# Altium footprint library Common-Parts-Library.PcbLib: 11 footprints
Each footprint in its own frame and in the unit in brackets; x right, y up, seen from the top. Pads: shape width x height; smd on the part's side, far side on the other; paste and mask are expansions set on the pad; w line width, h text height; cw(c..) or ccw(c..) is an arc to the next point about the centre after c.
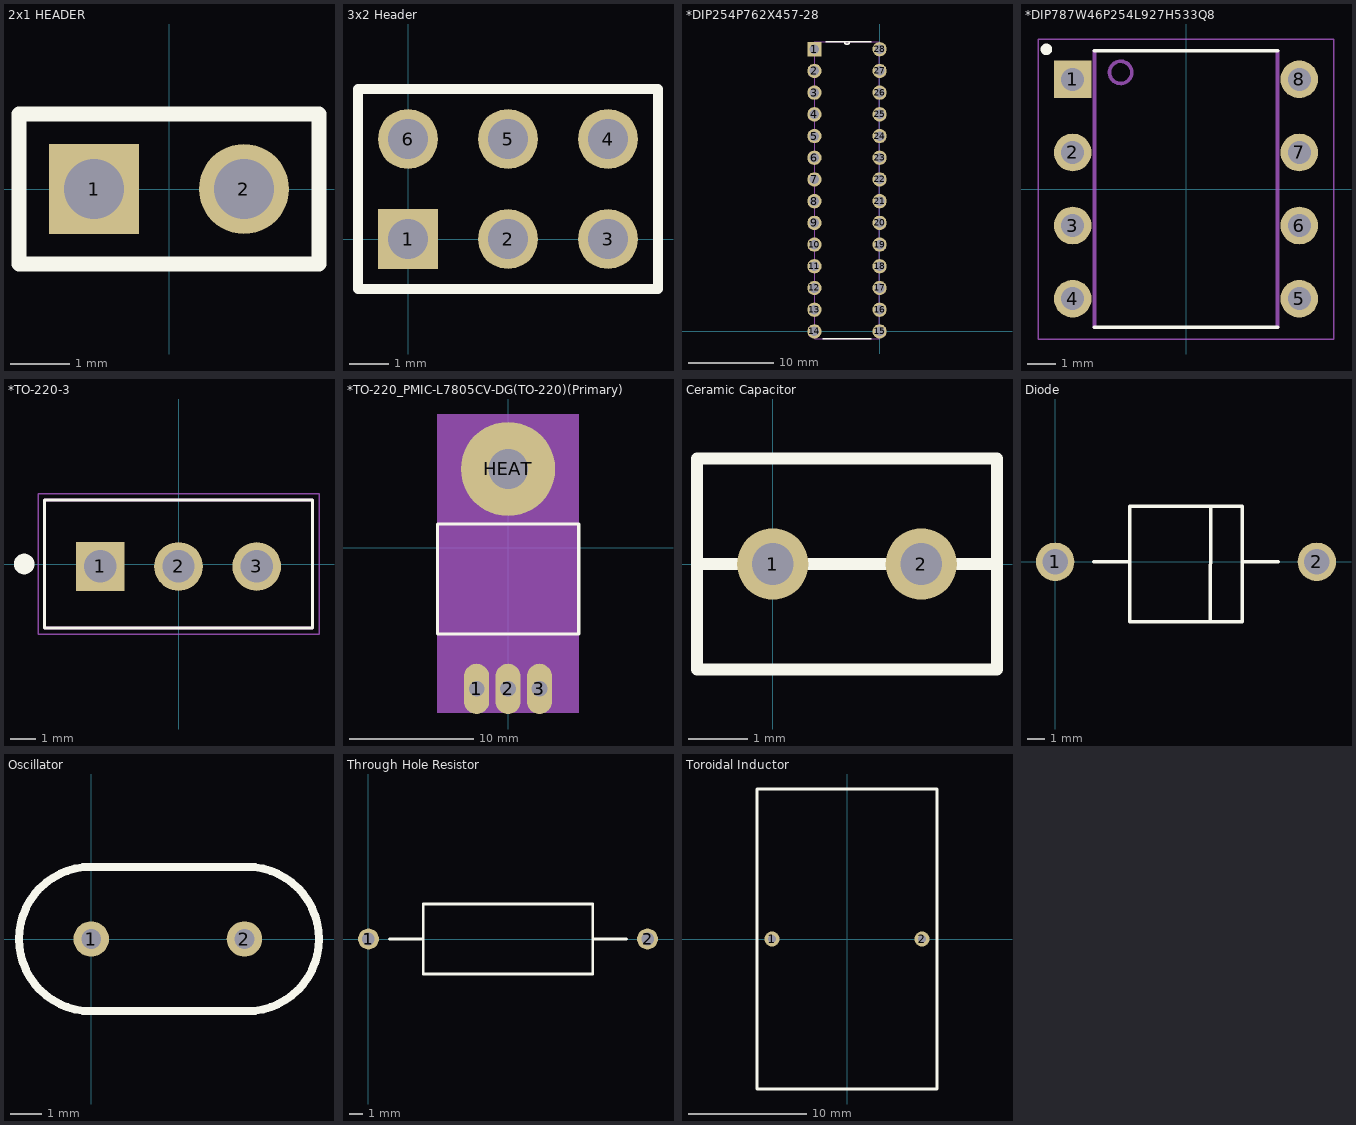
[diagram p0: the footprints below, top view; thin cyan lines are the x and y axes]

## 2x1 HEADER [mil]
pads (2):
  rect 60x60 hole 40: 1(-50,0)
  round 60 hole 40: 2(50,0)
Top Overlay:
  lines w10: -100,-50 100,-50 100,50 0,50 -100,50 -100,-50

## 3x2 Header [mil]
pads (6):
  rect 60x60 hole 40: 1(0,0)
  round 60 hole 40: 2(100,0) 3(200,0) 4(200,100) 5(100,100) 6(0,100)
Top Overlay:
  lines w10: -50,-50 250,-50 250,150 -50,150 -50,0 -50,-50

## *DIP254P762X457-28 [mil]
pads (28):
  rect 66x66 hole 44: 1(-300,1300)
  round 66 hole 44: 2(-300,1200) 3(-300,1100) 4(-300,1000) 5(-300,900) 6(-300,800) 7(-300,700) 8(-300,600) 9(-300,500) 10(-300,400) 11(-300,300) 12(-300,200) 13(-300,100) 14(-300,0) 15(0,0) 16(0,100) 17(0,200) 18(0,300) 19(0,400) 20(0,500) 21(0,600) 22(0,700) 23(0,800) 24(0,900) 25(0,1000) 26(0,1100) 27(0,1200) 28(0,1300)
Top Overlay:
  lines w6: -262,-35 -38,-35 ; -248,1335 -162,1335 ; -38,1335 -138,1335 ; -162,1335 ccw(c-150,1335) -138,1335 ; -162,1335 -138,1335
Mechanical 4:
  drawing of 238 lines, arcs and shapes, not listed

## *DIP787W46P254L927H533Q8 [mm]
pads (8):
  rect 1.308x1.308 hole 0.8: 1(-3.935,3.81)
  round 1.308 hole 0.8: 2(-3.935,1.27) 3(-3.935,-1.27) 4(-3.935,-3.81) 5(3.935,-3.81) 6(3.935,-1.27) 7(3.935,1.27) 8(3.935,3.81)
Top Overlay:
  circle w0.2: c-4.85,4.85 r0.1
  lines w0.127: -3.18,-4.8 3.18,-4.8 ; -3.18,4.8 3.18,4.8
Mechanical 4:
  circle w0.127: c-2.27,4.05 r0.386
  circle w0.127: c-2.27,4.05 r0.386
  lines w0.127: -3.18,-4.8 -3.18,4.8 -3.18,-4.8 ; 3.18,-4.8 3.18,4.8 3.18,-4.8
Mechanical 16:
  lines w0.05: -5.13,-5.21 5.13,-5.21 5.13,5.21 -5.13,5.21 -5.13,-5.21

## *TO-220-3 [mm]
pads (3):
  rect 1.89x1.89 hole 1.26: 1(-3.04,-0.095)
  round 1.89 hole 1.26: 2(0,-0.095) 3(3.04,-0.095)
Top Overlay:
  circle w0.4: c-6,0 r0.2
  lines w0.127: -5.21,-2.49 5.21,-2.49 5.21,2.49 -5.21,2.49 -5.21,-2.49
Mechanical 4:
  circle w0.4: c-3.04,-0.095 r0.2
  circle w0.4: c-3.04,-0.095 r0.2
  lines w0.127: -5.21,-2.49 5.21,-2.49 ; -5.21,-2.49 -5.21,2.49 ; -5.21,-2.49 5.21,-2.49 ; -5.21,-2.49 -5.21,2.49 ; -5.21,2.49 5.21,2.49 ; -5.21,2.49 5.21,2.49 ; 5.21,-2.49 5.21,2.49 ; 5.21,-2.49 5.21,2.49
Mechanical 16:
  lines w0.05: -5.46,-2.74 -5.46,2.74 5.46,2.74 5.46,-2.74 -5.46,-2.74

## *TO-220_PMIC-L7805CV-DG(TO-220)(Primary) [mil]
pads (4):
  oval 80x160 hole 50: 1(-100,-450) 2(0,-450) 3(100,-450)
  round 300 hole 126: HEAT(0,250)
Top Overlay:
  lines w10: -225,-275 225,-275 225,75 -225,75 -225,-275
Mechanical 16:
  region: -225.37,425 225,425 225,-525.85 -225.37,-525.85

## Ceramic Capacitor [mm]
pads (2):
  round 1.2 hole 0.7: 1(0,0) 2(2.5,0)
Top Overlay:
  lines w0.2: -1.275,0 1.3,0 ; 1.2,0 3.775,0 ; 3.775,0 3.775,-1.778 -1.275,-1.778 -1.275,1.778 3.775,1.778 3.775,0

## Diode [mm]
pads (2):
  round 2.2 hole 1.47: 1(0,0) 2(15,0)
Top Overlay:
  lines w0.2: 2.2,0 4.275,0 ; 8.89,-3.429 8.925,3.175 ; 10.725,0 12.8,0 ; 4.275,0 4.275,-3.429 10.725,-3.429 10.725,3.175 4.275,3.175 4.275,0

## Oscillator [mm]
pads (2):
  round 1.13 hole 0.63: 1(0,0) 2(4.88,0)
Top Overlay:
  lines w0.254: 0,-2.3 cw(c0,0) 0,2.3 4.953,2.3 cw(c4.953,0) 4.953,-2.3 0,-2.3

## Through Hole Resistor [mm]
pads (2):
  round 1.5 hole 0.9: 1(0,0) 2(20,0)
Top Overlay:
  lines w0.2: 1.5,0 3.925,0 ; 16.075,0 18.5,0 ; 3.925,0 3.925,-2.5 16.075,-2.5 16.075,2.5 3.925,2.5 3.925,0

## Toroidal Inductor [mil]
pads (2):
  round 50 hole 28: 1(-250,0) 2(250,0)
Top Overlay:
  lines w10: -300,-500 -300,0 -300,500 300,500 300,-500 -300,-500